# EAGLE library part HEROJRCART (library bt)
Hero Jr. Cartridge (ROM)
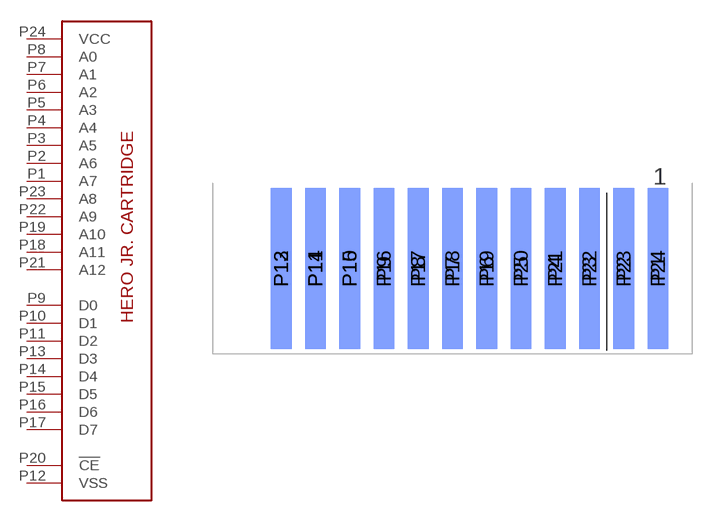
[diagram p13: symbol with the pads of HEROJRCART; footprint HEROJRCART]

Designator prefix -

## HEROJRCART  [HEROJRCART]
P1  A7
P2  A6
P3  A5
P4  A4
P5  A3
P6  A2
P7  A1
P8  A0
P9  D0
P10  D1
P11  D2
P12  VSS
P13  D3
P14  D4
P15  D5
P16  D6
P17  D7
P18  A11
P19  A10
P20  !CE
P21  A12
P22  A9
P23  A8
P24  VCC

## Footprint HEROJRCART (pad centres in mm)
smd 1.524 x 11.938 bottom: P1 15.24,0.254; P2 12.7,0.254; P3 10.16,0.254; P4 7.62,0.254; P5 5.08,0.254; P6 2.54,0.254; P7 0,0.254; P8 -2.54,0.254; P9 -5.08,0.254; P10 -7.62,0.254; P11 -10.16,0.254; P12 -12.7,0.254
smd 1.524 x 11.938: P13 -12.7,0.254; P14 -10.16,0.254; P15 -7.62,0.254; P16 -5.08,0.254; P17 -2.54,0.254; P18 0,0.254; P19 2.54,0.254; P20 5.08,0.254; P21 7.62,0.254; P22 10.16,0.254; P23 12.7,0.254; P24 15.24,0.254